# Altium footprint library SOP.PcbLib: 50 footprints (part 3 of 4)
Each footprint in its own frame and in the unit in brackets; x right, y up, seen from the top. Pads: shape width x height; smd on the part's side, far side on the other; paste and mask are expansions set on the pad; w line width, h text height; cw(c..) or ccw(c..) is an arc to the next point about the centre after c.
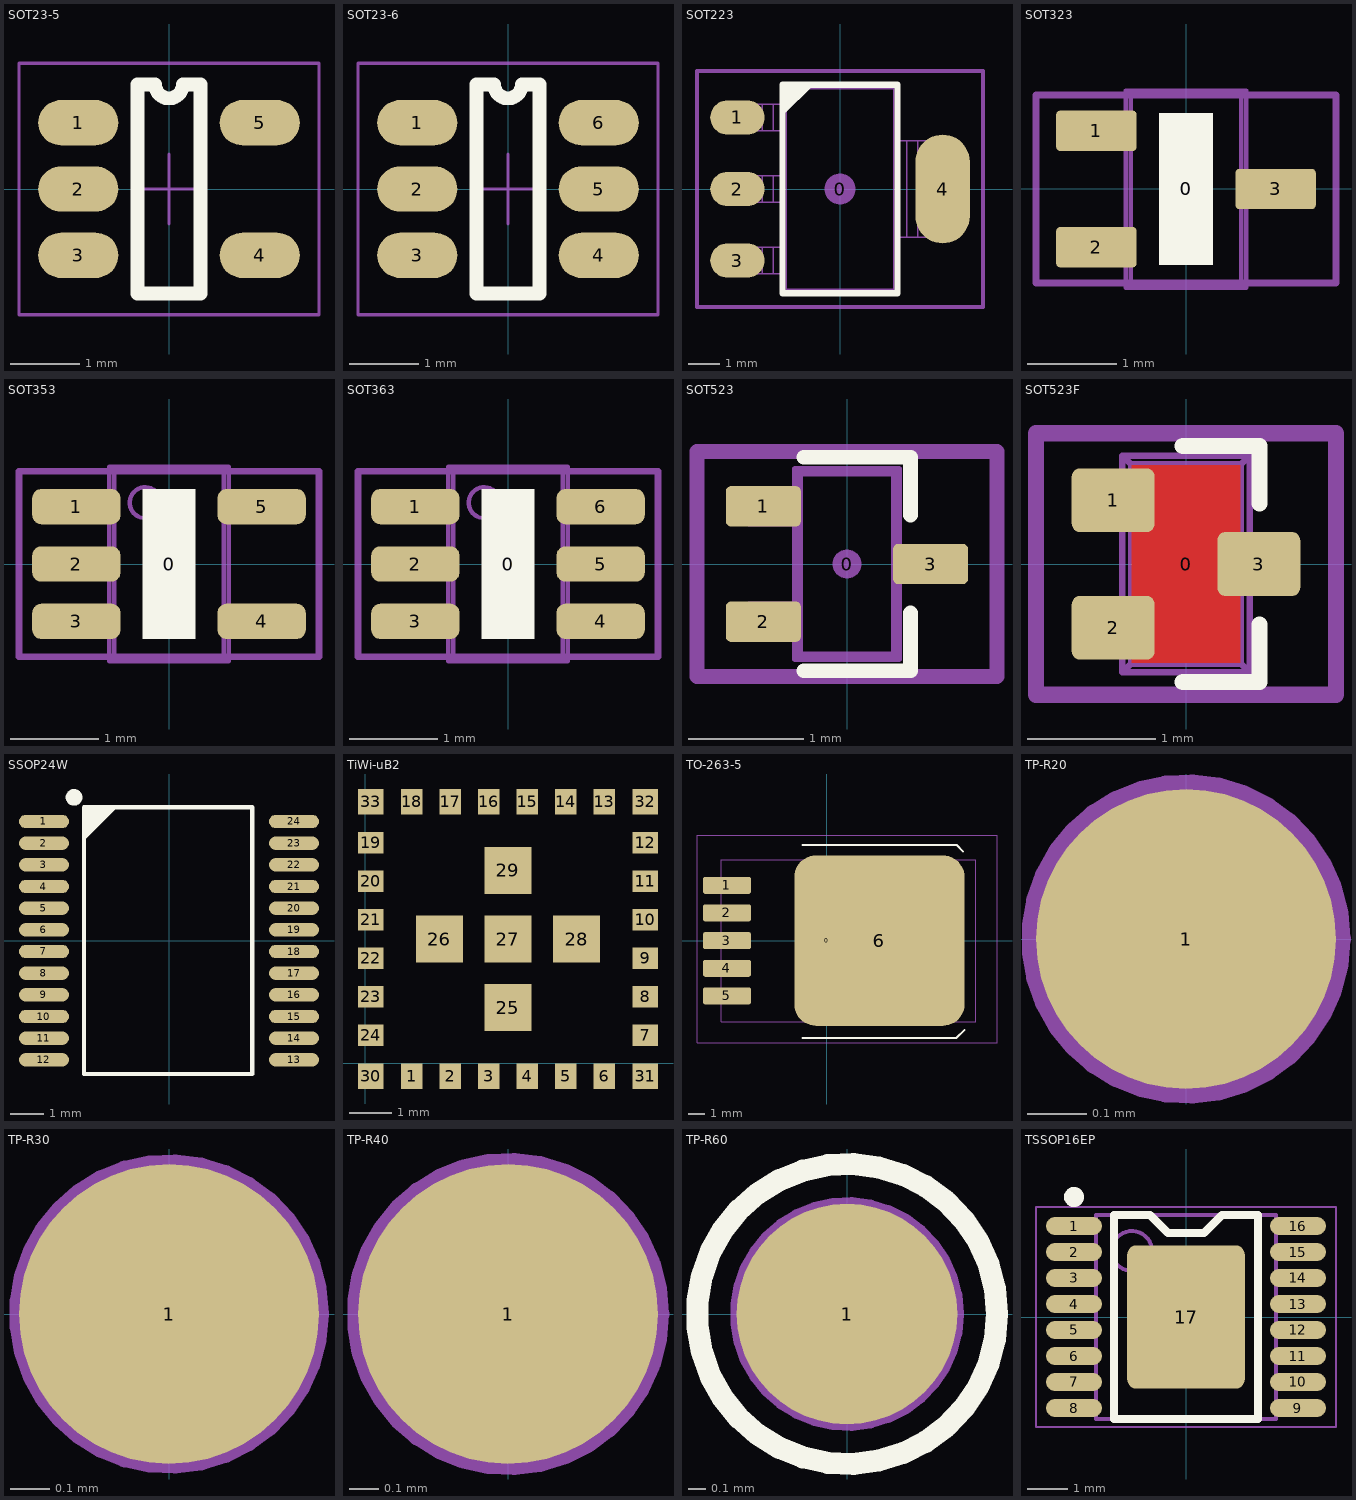
[diagram p2: the footprints below, top view; thin cyan lines are the x and y axes]

## SOT23-5 [mm] "SOT23, 5-Leads, Body 2.9x1.6mm, Pitch 0.95mm, Lead Span 2.8mm, IPC High Density"
height 1.19
pads (5):
  oval 1.15x0.65 smd mask+0.1: 1(-1.3,0.95) 2(-1.3,0) 3(-1.3,-0.95) 4(1.3,-0.95) 5(1.3,0.95)
Top Overlay:
  lines w0.2: -0.45,-1.5 0.45,-1.5 0.45,1.5 0.2,1.5 cw(c0,1.5) -0.2,1.5 -0.45,1.5 -0.45,-1.5
Top Solder:
  region: -1.65,0.95 -1.65,-0.95 -0.95,-0.95 -0.95,0.95
Mechanical 15:
  lines w0.05: -0.5,0 0.5,0 ; 0,-0.5 0,0.5 ; -2.15,-1.8 2.15,-1.8 2.15,1.8 -2.15,1.8 -2.15,-1.8
3D body "User Library-SOT23-5-1.step": height 1.3, standoff 0, extent -1.5,-1.5 1.5,1.5

## SOT23-6 [mm]
height 1.19
pads (6):
  oval 1.15x0.65 smd mask+0.1: 1(-1.3,0.95) 2(-1.3,0) 3(-1.3,-0.95) 4(1.3,-0.95) 5(1.3,0) 6(1.3,0.95)
Top Overlay:
  lines w0.2: -0.45,-1.5 -0.45,1.5 -0.2,1.5 ccw(c0,1.5) 0.2,1.5 0.45,1.5 0.45,-1.5 -0.45,-1.5
Top Solder:
  region: 0.95,0.95 0.95,-0.95 1.65,-0.95 1.65,0.95
  region: -1.65,0.95 -1.65,-0.95 -0.95,-0.95 -0.95,0.95
Mechanical 15:
  lines w0.05: -0.5,0 0.5,0 ; 0,-0.5 0,0.5 ; -2.15,-1.8 2.15,-1.8 2.15,1.8 -2.15,1.8 -2.15,-1.8
3D body "SOT23-6.step": height 1.3, standoff 0, extent -1.5,-1.5 1.5,1.5

## SOT223 [mm] "SOT223 /SC-73"
height 1.524
pads (5):
  round 1 on Mech15: 0(0,0)
  oval 1.75x1.1 smd: 1(-3.3,2.3) 2(-3.3,0) 3(-3.3,-2.3)
  oval 1.75x3.5 smd: 4(3.3,0)
Top Overlay:
  region: -1.85,3.35 -0.85,3.35 -1.85,2.35
  lines w0.2: -1.85,-3.35 1.85,-3.35 1.85,3.35 -1.85,3.35 -1.85,-3.35
Mechanical 13:
  lines w0.05: -3.186,-2.72 -3.186,-1.88 ; -3.186,-0.42 -3.186,0.42 ; -3.186,1.88 -3.186,2.72 ; -3.062,-2.72 -3.062,-1.88 ; -3.062,-0.42 -3.062,0.42 ; -3.062,1.88 -3.062,2.72 ; -2.506,-2.72 -2.506,-1.88 ; -2.506,-0.42 -2.506,0.42 ; -2.506,1.88 -2.506,2.72 ; -2.152,-2.72 -2.152,-1.88 ; -2.152,-0.42 -2.152,0.42 ; -2.152,1.88 -2.152,2.72 ; -1.85,-2.72 -1.85,-3.35 ; -1.85,-1.88 -1.85,-0.42 ; -1.85,0.42 -1.85,1.88 ; -1.85,2.72 -1.85,3.35 ; 1.85,-1.55 1.85,-3.35 ; 1.85,1.55 1.85,3.35 ; 2.152,-1.55 2.152,1.55 ; 2.506,-1.55 2.506,1.55 ; 3.062,-1.55 3.062,1.55 ; 3.186,-1.55 3.186,1.55 ; -1.85,-3.35 1.85,-3.35 ; -1.85,-3.35 -1.731,-3.231 ; -1.85,3.35 1.85,3.35 ; -1.85,3.35 -1.731,3.231 ; -1.731,-3.231 -1.731,3.231 ; -1.731,-3.231 1.731,-3.231 ; -1.731,3.231 1.731,3.231 ; 1.731,-3.231 1.731,3.231 ; 1.731,-3.231 1.85,-3.35 ; 1.731,3.231 1.85,3.35 ; -3.65,-2.72 -1.829,-2.72 -1.829,-1.88 -3.65,-1.88 -3.65,-2.72 ; -3.65,-0.42 -1.829,-0.42 -1.829,0.42 -3.65,0.42 -3.65,-0.42 ; -3.65,1.88 -1.829,1.88 -1.829,2.72 -3.65,2.72 -3.65,1.88 ; 1.829,-1.55 1.829,1.55 3.65,1.55 3.65,-1.55 1.829,-1.55
Mechanical 15:
  lines w0.127: -4.6,-3.8 4.6,-3.8 4.6,3.8 -4.6,3.8 -4.6,-3.8
3D body "SOT223-4.STEP": height 1.8, standoff 0, extent -3.65,-3.35 3.65,3.35

## SOT323 [mm] "Small outline 2.1mm L x 1.25mm W x 1.1mm H; 3 lead SC70, EIAJ SC-70, SOT323"
height 1.1
pads (4):
  round 0.5 on Mech15: 0(0,0)
  rrect20% 0.9x0.45 smd: 1(-1,0.65) 2(-1,-0.65) 3(1,0)
Top Overlay:
  rectangle: -0.3,-0.85 0.3,0.85
  text "." at -1.875,0.65 h0.1
Mechanical 13:
  lines w0.05: -1.028,-0.8 -1.028,-0.5 ; -1.028,0.5 -1.028,0.8 ; -0.937,-0.8 -0.937,-0.5 ; -0.937,0.5 -0.937,0.8 ; -0.925,-0.8 -0.925,-0.5 ; -0.925,0.5 -0.925,0.8 ; 0.925,-0.15 0.925,0.15 ; 0.937,-0.15 0.937,0.15 ; 1.028,-0.15 1.028,0.15 ; -0.675,-1.1 -0.619,-1.044 ; -0.675,-1.1 -0.675,1.1 ; -0.675,-1.1 0.675,-1.1 ; -0.675,1.1 -0.619,1.043 ; -0.675,1.1 0.675,1.1 ; -0.619,-1.044 -0.619,1.043 ; -0.619,-1.044 0.619,-1.044 ; -0.619,1.043 0.619,1.043 ; 0.619,-1.044 0.619,1.043 ; 0.619,-1.044 0.675,-1.1 ; 0.619,1.043 0.675,1.1 ; 0.675,-1.1 0.675,1.1 ; -1.2,-0.8 -0.654,-0.8 -0.654,-0.5 -1.2,-0.5 -1.2,-0.8 ; -1.2,0.5 -0.654,0.5 -0.654,0.8 -1.2,0.8 -1.2,0.5 ; 0.654,-0.15 0.654,0.15 1.2,0.15 1.2,-0.15 0.654,-0.15
Mechanical 15:
  lines w0.076: -1.675,-1.05 1.675,-1.05 1.675,1.05 -1.675,1.05 -1.675,-1.05
3D body "SOT323.STEP": height 1.1, standoff 0, extent -1.2,-1.1 1.2,1.1

## SOT353 [mm] "Small outline 2.1mm L x 1.25mm W x 1mm H; 5LD SC-70; SC-88A"
height 1.1
pads (6):
  round 0.5 on Mech15: 0(0,0)
  rrect50% 1x0.4 smd: 1(-1.05,0.65) 2(-1.05,0) 3(-1.05,-0.65) 4(1.05,-0.65) 5(1.05,0.65)
Top Overlay:
  rectangle: -0.3,-0.85 0.3,0.85
  text "." at -2.025,0.65 h0.1
Top Solder:
  rectangle: -1.397,-0.762 -0.635,0.762
Mechanical 13:
  circle w0.05: c-0.27,0.695 r0.175
  lines w0.05: -1.028,-0.8 -1.028,-0.5 ; -1.028,-0.15 -1.028,0.15 ; -1.028,0.5 -1.028,0.8 ; -0.937,-0.8 -0.937,-0.5 ; -0.937,-0.15 -0.937,0.15 ; -0.937,0.5 -0.937,0.8 ; -0.925,-0.8 -0.925,-0.5 ; -0.925,-0.15 -0.925,0.15 ; -0.925,0.5 -0.925,0.8 ; 0.925,-0.8 0.925,-0.5 ; 0.925,0.5 0.925,0.8 ; 0.937,-0.8 0.937,-0.5 ; 0.937,0.5 0.937,0.8 ; 1.028,-0.8 1.028,-0.5 ; 1.028,0.5 1.028,0.8 ; -0.675,-1.1 0.675,-1.1 ; -0.675,-1.1 -0.675,1.1 ; -0.675,-1.1 -0.619,-1.044 ; -0.675,1.1 0.675,1.1 ; -0.675,1.1 -0.619,1.044 ; -0.619,-1.044 0.619,-1.044 ; -0.619,-1.044 -0.619,1.044 ; -0.619,1.044 0.619,1.044 ; 0.619,-1.044 0.675,-1.1 ; 0.619,-1.044 0.619,1.044 ; 0.619,1.044 0.675,1.1 ; 0.675,-1.1 0.675,1.1 ; -1.2,-0.8 -1.2,-0.5 -0.654,-0.5 -0.654,-0.8 -1.2,-0.8 ; -1.2,-0.15 -1.2,0.15 -0.654,0.15 -0.654,-0.15 -1.2,-0.15 ; -1.2,0.5 -1.2,0.8 -0.654,0.8 -0.654,0.5 -1.2,0.5 ; 0.654,-0.8 1.2,-0.8 1.2,-0.5 0.654,-0.5 0.654,-0.8 ; 0.654,0.5 1.2,0.5 1.2,0.8 0.654,0.8 0.654,0.5
Mechanical 15:
  lines w0.076: -1.7,-1.05 1.7,-1.05 1.7,1.05 -1.7,1.05 -1.7,-1.05
3D body "SOT353.STEP": height 1.1, standoff 0, extent -1.2,-1.1 1.2,1.1

## SOT363 [mm] "Small outline 2.1mm L x 1.25mm W x 1mm H"
height 1
pads (7):
  round 0.5 on Mech15: 0(0,0)
  rrect50% 1x0.4 smd: 1(-1.05,0.65) 2(-1.05,0) 3(-1.05,-0.65) 4(1.05,-0.65) 5(1.05,0) 6(1.05,0.65)
Top Overlay:
  rectangle: -0.3,-0.85 0.3,0.85
  text "." at -2.025,0.65 h0.1
Top Solder:
  region: 1.397,0.762 0.635,0.762 0.635,-0.762 1.397,-0.762
  rectangle: -1.397,-0.762 -0.635,0.762
Mechanical 13:
  circle w0.05: c-0.27,0.695 r0.175
  lines w0.05: -1.028,-0.8 -1.028,-0.5 ; -1.028,-0.15 -1.028,0.15 ; -1.028,0.5 -1.028,0.8 ; -0.937,-0.8 -0.937,-0.5 ; -0.937,-0.15 -0.937,0.15 ; -0.937,0.5 -0.937,0.8 ; -0.925,-0.8 -0.925,-0.5 ; -0.925,-0.15 -0.925,0.15 ; -0.925,0.5 -0.925,0.8 ; 0.925,-0.8 0.925,-0.5 ; 0.925,-0.15 0.925,0.15 ; 0.925,0.5 0.925,0.8 ; 0.937,-0.8 0.937,-0.5 ; 0.937,-0.15 0.937,0.15 ; 0.937,0.5 0.937,0.8 ; 1.028,-0.8 1.028,-0.5 ; 1.028,-0.15 1.028,0.15 ; 1.028,0.5 1.028,0.8 ; -0.675,-1.1 -0.619,-1.044 ; -0.675,-1.1 -0.675,1.1 ; -0.675,-1.1 0.675,-1.1 ; -0.675,1.1 -0.619,1.044 ; -0.675,1.1 0.675,1.1 ; -0.619,-1.044 -0.619,1.044 ; -0.619,-1.044 0.619,-1.044 ; -0.619,1.044 0.619,1.044 ; 0.619,-1.044 0.619,1.044 ; 0.619,-1.044 0.675,-1.1 ; 0.619,1.044 0.675,1.1 ; 0.675,-1.1 0.675,1.1 ; -1.2,-0.8 -0.654,-0.8 -0.654,-0.5 -1.2,-0.5 -1.2,-0.8 ; -1.2,-0.15 -0.654,-0.15 -0.654,0.15 -1.2,0.15 -1.2,-0.15 ; -1.2,0.5 -0.654,0.5 -0.654,0.8 -1.2,0.8 -1.2,0.5 ; 0.654,-0.8 0.654,-0.5 1.2,-0.5 1.2,-0.8 0.654,-0.8 ; 0.654,-0.15 0.654,0.15 1.2,0.15 1.2,-0.15 0.654,-0.15 ; 0.654,0.5 0.654,0.8 1.2,0.8 1.2,0.5 0.654,0.5
Mechanical 15:
  lines w0.076: -1.7,-1.05 1.7,-1.05 1.7,1.05 -1.7,1.05 -1.7,-1.05
3D body "SOT363.STEP": height 1.1, standoff 0, extent -1.2,-1.1 1.2,1.1

## SOT523 [mm] "3 Lead SC75; EIAJ-SC75; SOT523; SOT416?"
height 0.9
pads (4):
  round 0.254 on Mech15: 0(0,0)
  rrect25% 0.65x0.35 smd: 1(-0.725,0.5) 2(-0.725,-0.5) 3(0.725,0)
Top Overlay:
  lines w0.127: -0.375,-0.925 0.55,-0.925 0.55,-0.425 ; -0.375,0.925 0.55,0.925 0.55,0.425
  text "." at -1.455,0.5 h0.05
Mechanical 13:
  lines w0.05: -0.669,-0.65 -0.669,-0.35 ; -0.669,0.35 -0.669,0.65 ; -0.623,-0.65 -0.623,-0.35 ; -0.623,0.35 -0.623,0.65 ; -0.61,-0.65 -0.61,-0.35 ; -0.61,0.35 -0.61,0.65 ; 0.61,-0.15 0.61,0.15 ; 0.623,-0.15 0.623,0.15 ; 0.669,-0.15 0.669,0.15 ; -0.45,-0.825 0.45,-0.825 ; -0.45,-0.825 -0.45,0.825 ; -0.45,-0.825 -0.408,-0.783 ; -0.45,0.825 0.45,0.825 ; -0.45,0.825 -0.408,0.783 ; -0.408,-0.783 0.408,-0.783 ; -0.408,-0.783 -0.408,0.783 ; -0.408,0.783 0.408,0.783 ; 0.408,-0.783 0.45,-0.825 ; 0.408,-0.783 0.408,0.783 ; 0.408,0.783 0.45,0.825 ; 0.45,-0.825 0.45,0.825 ; -0.85,-0.65 -0.85,-0.35 -0.429,-0.35 -0.429,-0.65 -0.85,-0.65 ; -0.85,0.35 -0.85,0.65 -0.429,0.65 -0.429,0.35 -0.85,0.35 ; 0.429,-0.15 0.85,-0.15 0.85,0.15 0.429,0.15 0.429,-0.15
Mechanical 15:
  lines w0.127: -1.3,-0.975 1.3,-0.975 1.3,0.975 -1.3,0.975 -1.3,-0.975
3D body "SOT523.STEP": height 0.9, standoff 0, extent -0.85,-0.825 0.85,0.825

## SOT523F [mm] "3 Lead SC89; EIAJ-SC89; SOT523F"
height 0.8
pads (4):
  round 0.254 on Mech15: 0(0,0)
  rrect25% 0.65x0.5 smd: 1(-0.57,0.5) 2(-0.57,-0.5) 3(0.57,0)
Top Layer:
  pour cut-out: -0.425,0.775 0.425,0.775 0.425,-0.775 -0.425,-0.775
Top Overlay:
  lines w0.127: -0.025,-0.925 0.575,-0.925 0.575,-0.475 ; -0.025,0.925 0.575,0.925 0.575,0.475
  text "." at -1.3,0.5 h0.05
Mechanical 13:
  lines w0.05: -0.499,-0.675 -0.499,-0.849 ; -0.499,-0.325 -0.499,0.325 ; -0.499,0.675 -0.499,0.849 ; 0.499,-0.175 0.499,-0.849 ; 0.499,0.175 0.499,0.849 ; -0.499,-0.849 -0.43,-0.78 ; -0.499,-0.849 0.499,-0.849 ; -0.499,0.849 -0.43,0.78 ; -0.499,0.849 0.499,0.849 ; -0.43,-0.78 -0.43,0.78 ; -0.43,-0.78 0.43,-0.78 ; -0.43,0.78 0.43,0.78 ; 0.43,-0.78 0.499,-0.849 ; 0.43,-0.78 0.43,0.78 ; 0.43,0.78 0.499,0.849 ; -0.85,-0.675 -0.483,-0.675 -0.483,-0.325 -0.85,-0.325 -0.85,-0.675 ; -0.85,0.325 -0.483,0.325 -0.483,0.675 -0.85,0.675 -0.85,0.325 ; 0.483,-0.175 0.483,0.175 0.85,0.175 0.85,-0.175 0.483,-0.175
Mechanical 15:
  lines w0.127: -1.175,-1.025 -1.175,1.025 1.175,1.025 1.175,-1.025 -1.175,-1.025
3D body "SOT523F.STEP": height 0.8, standoff 0, extent -0.85,-0.849 0.85,0.849

## SSOP24W [mm] "TSSOP, 24-Leads, Body 7.9x4.5mm (max), Pitch 0.65mm, IPC Medium Density; JEDEC MO-153"
height 1.1
pads (24):
  oval 1.5x0.4 smd mask+0.127: 1(-3.75,3.575) 2(-3.75,2.925) 3(-3.75,2.275) 4(-3.75,1.625) 5(-3.75,0.975) 6(-3.75,0.325) 7(-3.75,-0.325) 8(-3.75,-0.975) 9(-3.75,-1.625) 10(-3.75,-2.275) 11(-3.75,-2.925) 12(-3.75,-3.575) 13(3.75,-3.575) 14(3.75,-2.925) 15(3.75,-2.275) 16(3.75,-1.625) 17(3.75,-0.975) 18(3.75,-0.325) 19(3.75,0.325) 20(3.75,0.975) 21(3.75,1.625) 22(3.75,2.275) 23(3.75,2.925) 24(3.75,3.575)
Top Overlay:
  circle w0.25: c-2.85,4.3 r0.125
  region: -2.55,4 -1.55,4 -2.55,3
  lines w0.127: -2.55,-4 2.5,-4 2.5,4 -2.55,4 -2.55,-4
3D body "User Library-SSOP-24.STEP": height 1.9, standoff 0, extent -3.9,-4.1 3.9,4.1

## TiWi-uB2 [mm]
pads (33):
  rect 0.5x0.6 smd: 1(1.075,-0.3) 2(1.975,-0.3) 3(2.875,-0.3) 4(3.775,-0.3) 5(4.675,-0.3) 6(5.575,-0.3) 13(5.575,6.1) 14(4.675,6.1) 15(3.775,6.1) 16(2.875,6.1) 17(1.975,6.1) 18(1.075,6.1)
  rect 0.6x0.5 smd: 7(6.525,0.65) 8(6.525,1.55) 9(6.525,2.45) 10(6.525,3.35) 11(6.525,4.25) 12(6.525,5.15) 19(0.125,5.15) 20(0.125,4.25) 21(0.125,3.35) 22(0.125,2.45) 23(0.125,1.55) 24(0.125,0.65)
  rect 1.1x1.1 smd: 25(3.325,1.3) 26(1.725,2.9) 27(3.325,2.9) 28(4.925,2.9) 29(3.325,4.5)
  rect 0.6x0.6 smd: 30(0.125,-0.3) 31(6.525,-0.3) 32(6.525,6.1) 33(0.125,6.1)
3D body "User Library-TiWi-uB2.step": height 1.5, standoff -0.05, extent -0.175,-0.6 6.825,6.4

## TO-263-5 [mm] "D-PAK/TO-263-5; 5 Leads; Body 14.4 (inc. leads) x 10.4 mm (LxW max)"
height 4.65
pads (7):
  round 0.5 on Mech15: 0(0,0)
  rrect25% 2.95x1.05 smd: 1(-6.15,3.41) 2(-6.15,1.705) 3(-6.15,0) 4(-6.15,-1.705) 5(-6.15,-3.41)
  rrect25% 10.5x10.5 smd: 6(3.25,0)
Top Overlay:
  lines w0.127: -1.5,-6 8,-6 8.5,-5.5 ; -1.5,5.9 8,5.9 8.4,5.5
Mechanical 13:
  lines w0.076: -6.49,-5 9.18,-5 9.18,5 -6.49,5 -6.49,-5
Mechanical 15:
  lines w0.076: -8,-6.3 10.5,-6.3 10.5,6.5 -8,6.5 -8,-6.3
3D body "TO-263-5.stp": height 4.56, standoff 0, extent -6.727,-5.08 7.288,5.08

## TP-R20 [mil]
pads (1):
  round 20 smd paste-30 mask+3: 1(0,0)
Mechanical 13:
  circle w1.97: c0,0 r10
3D body: height -3, standoff -5, extent -10.91,-10.98 11,10.98

## TP-R30 [mil]
pads (1):
  round 30 smd paste-30 mask+3: 1(0,0)
Mechanical 13:
  circle w1.97: c0,0 r15
3D body: height 10, standoff 0, extent -17.86,-17.96 18,17.97

## TP-R40 [mil]
pads (1):
  round 40 smd paste-40: 1(0,0)
Mechanical 13:
  circle w3: c0,0 r20
3D body: height 10, standoff 0, extent -19.84,-19.96 20,19.96

## TP-R60 [mm]
pads (1):
  round 1.27 smd paste-1.27: 1(0,0)
Top Overlay:
  circle w0.127: c0,0 r0.864
Mechanical 13:
  circle w0.076: c0,0 r0.635
3D body: height 0.25, standoff 0, extent -0.756,-0.76 0.762,0.761

## TSSOP16EP [mm] "SOP, 16-Leads, Body 5x4.4mm, Pitch 0.65mm, IPC High Density"
height 2
pads (17):
  oval 1.4x0.45 smd mask+0.1: 1(-2.8,2.275) 2(-2.8,1.625) 3(-2.8,0.975) 4(-2.8,0.325) 5(-2.8,-0.325) 6(-2.8,-0.975) 7(-2.8,-1.625) 8(-2.8,-2.275) 9(2.8,-2.275) 10(2.8,-1.625) 11(2.8,-0.975) 12(2.8,-0.325) 13(2.8,0.325) 14(2.8,0.975) 15(2.8,1.625) 16(2.8,2.275)
  rrect15% 2.94x3.58 smd mask+0.1: 17(0,0)
Top Overlay:
  circle w0.25: c-2.8,3 r0.125
  lines w0.2: -1.8,-2.55 -1.8,2.55 -0.9,2.55 -0.45,2.1 0.45,2.1 0.9,2.55 1.8,2.55 1.8,-2.55 -1.8,-2.55
Mechanical 1:
  circle w0.1: c-1.35,1.65 r0.5
  lines w0.1: -2.25,-2.55 2.25,-2.55 2.25,2.55 -2.25,2.55 -2.25,-2.55
Mechanical 15:
  lines w0.05: -0.5,0 0.5,0 ; 0,-0.5 0,0.5 ; -3.75,-2.75 3.75,-2.75 3.75,2.75 -3.75,2.75 -3.75,-2.75
3D body "User Library-TSSOP-16 5_1x4_4.STEP": height 1.12, standoff 0.02, extent -3.2,-2.55 3.2,2.55